# Altium footprint library PcbLib1.PcbLib: 20 footprints (part 2 of 2)
Each footprint in its own frame and in the unit in brackets; x right, y up, seen from the top. Pads: shape width x height; smd on the part's side, far side on the other; paste and mask are expansions set on the pad; w line width, h text height; cw(c..) or ccw(c..) is an arc to the next point about the centre after c.
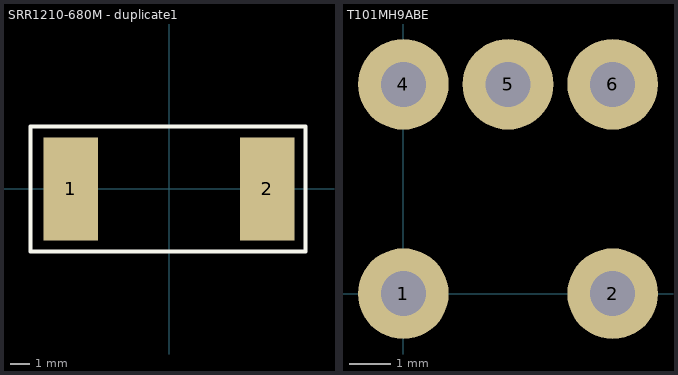
[diagram p1: the footprints below, top view; thin cyan lines are the x and y axes]

## SRR1210-680M [mm]

## SRR1210-680M - duplicate [mm]

## SRR1210-680M - duplicate1 [mm]
pads (2):
  rect 2.8x5.3 smd: 1(-5.05,0) 2(5.05,0)
Top Overlay:
  lines w0.2: -7.1,-3.2 -7.1,-1.1 -7.1,1.1 -7.1,3.2 7,3.2 7,-3.2 -7.1,-3.2

## T101MH9ABE [mm]
pads (5):
  round 2.2 hole 1.09: 1(0,0) 2(5.08,0) 4(0,5.08) 5(2.54,5.08) 6(5.08,5.08)
Mechanical 29:
  text "'.Designator'" at -1.2,2.233 h0.7